# Altium schematic symbol library tubes.SchLib: 3 symbols
Pins are listed as number, name and electrical type; pins without a type are passive.

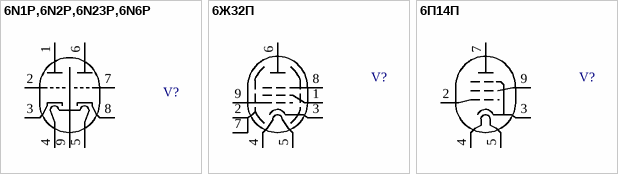
[diagram p0: symbols 6N1P,6N2P,6N23P,6N6P to 6П14П]

## 6N1P,6N2P,6N23P,6N6P
designator V?
Medium Mu Dual Triode
footprint VTUBE-9 (Medium Mu Dual Triode; 9 Leads)
pins: 1 A1, 2 C1, 3 K1, 4 H, 5 H, 6 A2, 7 C2, 8 K2, 9 PT2

## 6Ж32П
designator V?
pentode 6Ж32П, EF86
footprint VTUBE-9 (Medium Mu Dual Triode; 9 Leads)
pins: 1 C2, 2 S1, 3 K, 4 H, 5 H, 6 A, 7 S2, 8 C3, 9 C1

## 6П14П
designator V?
pentode 6П14П, EL84
footprint VTUBE-9 (Medium Mu Dual Triode; 9 Leads)
pins: 2 C1, 3 K,C3, 4 H, 5 H, 7 A, 9 C2